# EAGLE library part LSM6DS3 (library Bulkhead Flight Computer)
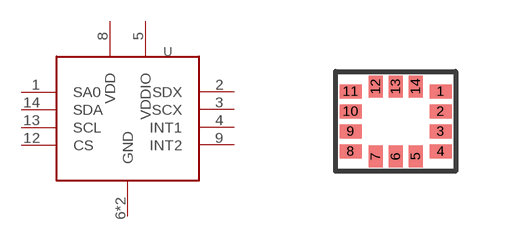
[diagram p3: symbol with the pads of LSM6DS3; footprint LSM6DS3]

Designator prefix U

## LSM6DS3  [LSM6DS3]
1  SA0
2  SDX
3  SCX
4  INT1
5  VDDIO  pwr
6  GND  pas
7  GND  pas
8  VDD  pwr
9  INT2
12  CS
13  SCL
14  SDA

## Footprint LSM6DS3 (pad centres in mm)
smd 0.55 x 0.35: 1 1.125,0.75; 2 1.125,0.25; 3 1.125,-0.25; 4 1.125,-0.75; 8 -1.125,-0.75; 9 -1.125,-0.25; 10 -1.125,0.25; 11 -1.125,0.75
smd 0.35 x 0.55: 5 0.5,-0.875; 6 0,-0.875; 7 -0.5,-0.875; 12 -0.5,0.875; 13 0,0.875; 14 0.5,0.875